# Altium schematic symbol library Schlib SOM AM625.SchLib: 122 symbols (part 4 of 4)
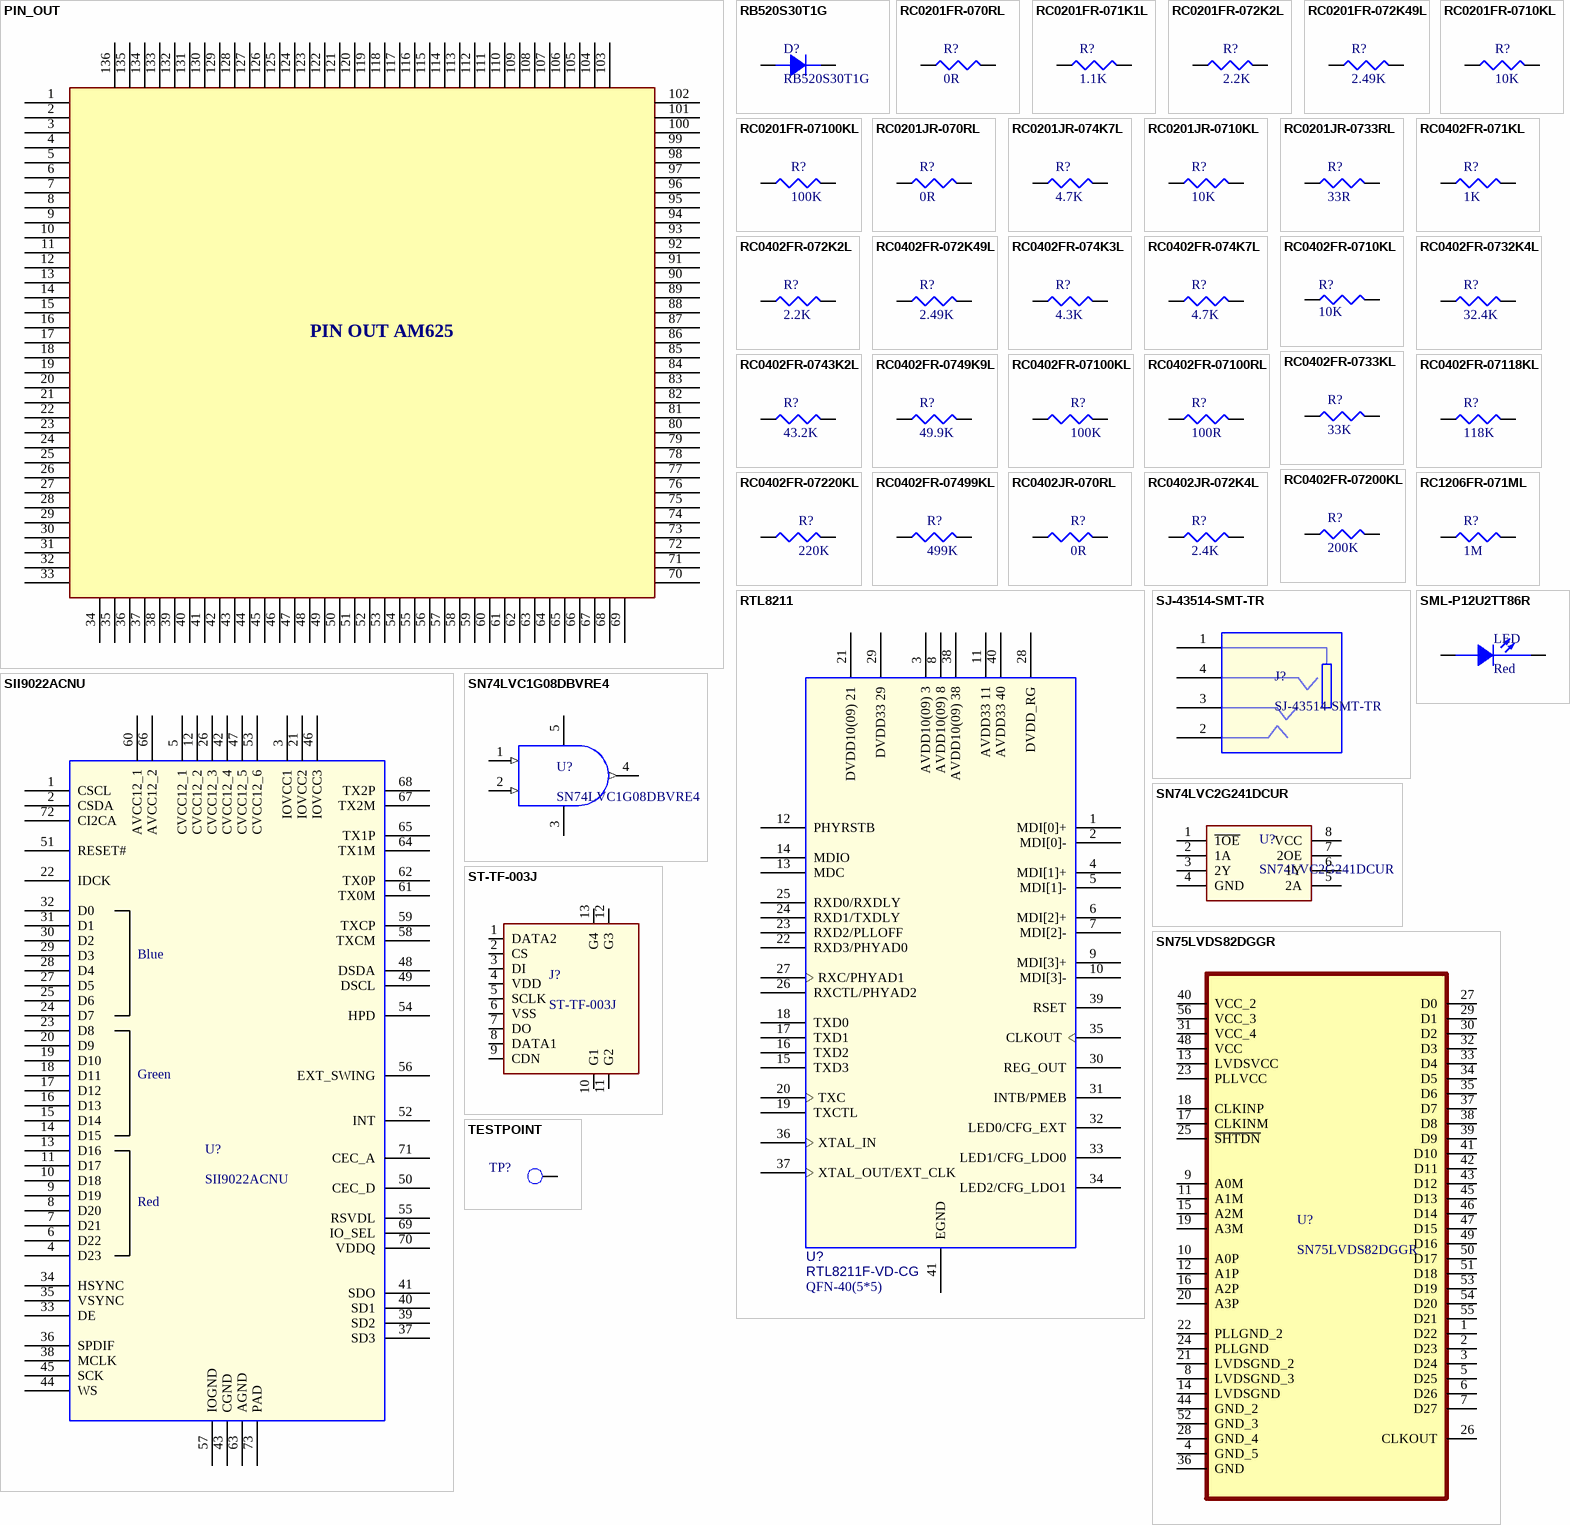
[diagram p6: symbols PIN_OUT to TESTPOINT]

## RC0402FR-07220KL
designator R?, comment 220K
SMD Chip Resistor, 220 kOhm, ± 1%, 63 mW, 0402 [1005 Metric], Thick Film, General Purpose; Manufacturer: Yageo; Manufacturer Part Number: RC0402FR-07220KL; Resistance: 220kR; Power Rating: 62.5mW; Voltage Rating: 50V; Temperature Coefficient: 100ppm/°C; Max Power Dissipation: 63mW; Supplier 1: Future Electronics; RoHS: Yes; Category: Chip SMD Resistors; Stock 1: 20000; Pricing 1: 10000=0.0008, 50000=0.0008, 250000=0.0007, 500000=0.0007, 1500000=0.0007 (USD); Case/Package: 0402; Case Code (Imperial): 0402; Case Code (Metric): 1005; Weight: 2.3E-05oz; Size Code: 0402; Min Operating Temperature: -55°C; Max Operating Temperature: 155°C; Tolerance: 1%; Package Quantity: 1; Packaging: Tape and Reel; Termination: SMD/SMT; Resistor Type: Thick Film; Number of Terminations: 2; Features: Moisture Resistant; Series: RC; Resistance Tolerance: 1%; Technology: THICK FILM; Construction: Rectangular; Voltage Rating (AC): 50V; Length: 1mm; Width: 0.02inch; Height: 0.016inch; Depth: 0.5mm; RoHS Compliant: Yes; Reach SVHC Compliant: No; Military Standard: Not; Lead Free: 5697LeadFree; ComponentLink1URL: https://datasheet.ciiva.com/11808/0900766b80c66297-11808792.pdf?src-supplier=Rs; ComponentLink1Description: https://datasheet.ciiva.com/11808/0900766b80c66297-11808792.pdf?src-supplier=Rs; ComponentLink2URL: https://datasheet.ciiva.com/5924/1018594-5924944.pdf?src-supplier=Farnell; ComponentLink2Description: https://datasheet.ciiva.com/5924/1018594-5924944.pdf?src-supplier=Farnell; ComponentLink3URL: https://datasheet.ciiva.com/2453/pyu-r-int-thick-7-2453533.pdf?src-supplier=Digi-Key; ComponentLink3Description: https://datasheet.ciiva.com/2453/pyu-r-int-thick-7-2453533.pdf?src-supplier=Digi-Key; ComponentLink4URL: https://datasheet.ciiva.com/2453/pyu-r-int-thick-7-2453534.pdf?src-supplier=Digi-Key; ComponentLink4Description: https://datasheet.ciiva.com/2453/pyu-r-int-thick-7-2453534.pdf?src-supplier=Digi-Key; ComponentLink5URL: https://datasheet.ciiva.com/2453/pyu-r-int-thick-7-2453532.pdf?src-supplier=Digi-Key; ComponentLink5Description: https://datasheet.ciiva.com/2453/pyu-r-int-thick-7-2453532.pdf?src-supplier=Digi-Key; ComponentLink6URL: https://datasheet.ciiva.com/12577/pyu-rc0402-51-rohs-l-6-r-12577270.pdf?src-supplier=Mouser; ComponentLink6Description: https://datasheet.ciiva.com/12577/pyu-rc0402-51-rohs-l-6-r-12577270.pdf?src-supplier=Mouser; Supplier Part Number 1: 3187143
footprint R0402
pins: 1, 2

## RC0402FR-07499KL
designator R?, comment 499K
SMD Chip Resistor, 499 kOhm, ± 1%, 63 mW, 0402 [1005 Metric], Thick Film, General Purpose; Manufacturer: Yageo; Manufacturer Part Number: RC0402FR-07499KL; Resistance: 499kR; Power Rating: 62.5mW; Voltage Rating: 50V; Max Power Dissipation: 63mW; Temperature Coefficient: 100ppm/°C; Supplier 1: Future Electronics; RoHS: Yes; Category: Chip SMD Resistors; Stock 1: 910000; Pricing 1: 10000=0.0008, 50000=0.0008, 250000=0.0007, 500000=0.0007, 1500000=0.0007 (USD); Case/Package: 0402; Case Code (Metric): 1005; Case Code (Imperial): 0402; Min Operating Temperature: -55°C; Max Operating Temperature: 155°C; Package Quantity: 1; Tolerance: 1%; Packaging: Tape and Reel; Number of Terminations: 2; Termination: SMD/SMT; Working Voltage: 50V; Features: Moisture Resistant; Series: RC; Construction: Rectangular; Technology: THICK FILM; Voltage Rating (DC): 50V; Length: 0.039inch; Width: 0.02inch; Height: 0.016inch; Depth: 0.5mm; Military Standard: Not; RoHS Compliant: Yes; Lead Free: 5697LeadFree; ComponentLink1URL: https://datasheet.ciiva.com/2491/pyu-r-int-thick-7-2491265.pdf?src-supplier=Digi-Key; ComponentLink1Description: https://datasheet.ciiva.com/2491/pyu-r-int-thick-7-2491265.pdf?src-supplier=Digi-Key; ComponentLink2URL: https://datasheet.ciiva.com/2491/pyu-r-int-thick-7-2491266.pdf?src-supplier=Digi-Key; ComponentLink2Description: https://datasheet.ciiva.com/2491/pyu-r-int-thick-7-2491266.pdf?src-supplier=Digi-Key; ComponentLink3URL: https://datasheet.ciiva.com/2491/pyu-r-int-thick-7-2491264.pdf?src-supplier=Digi-Key; ComponentLink3Description: https://datasheet.ciiva.com/2491/pyu-r-int-thick-7-2491264.pdf?src-supplier=Digi-Key; ComponentLink4URL: https://datasheet.ciiva.com/5558/pyu-rc0402-51-rohs-l-6-r-5558345.pdf?src-supplier=Mouser; ComponentLink4Description: https://datasheet.ciiva.com/5558/pyu-rc0402-51-rohs-l-6-r-5558345.pdf?src-supplier=Mouser; ComponentLink5URL: https://datasheet.ciiva.com/15189/getdatasheetpartid-323686-15189469.pdf?src-supplier=Verical; ComponentLink5Description: https://datasheet.ciiva.com/15189/getdatasheetpartid-323686-15189469.pdf?src-supplier=Verical; Supplier Part Number 1: 3509312
footprint R0402
pins: 1, 2

## RC0402JR-070RL
designator R?, comment 0R
Zero Ohm Resistor, Jumper, 0402 [1005 Metric], Thick Film, 63 mW, 1 A, Surface Mount; Manufacturer: Yageo; Manufacturer Part Number: RC0402JR-070RL; Resistance: 0mR; Power Rating: 62.5mW; Tolerance: 5%; Voltage Rating: 50V; Max Power Dissipation: 63mW; Temperature Coefficient: 200ppm/°C; Supplier 1: Future Electronics; RoHS: Yes; Category: Chip SMD Resistors; Stock 1: 51030000; Pricing 1: 10000=0.0009, 50000=0.0008, 250000=0.0008, 500000=0.0007, 1500000=0.0007 (USD); Case/Package: 0402; Contact Plating: Tin,Matte; Case Code (Metric): 1005; Case Code (Imperial): 0402; Size Code: 0402; Min Operating Temperature: -55°C; Max Operating Temperature: 155°C; Packaging: Tape and Reel; Resistor Type: Thick Film; Number of Terminations: 2; Termination: SMD/SMT; Features: Moisture Resistant; Series: RC; Package Quantity: 1; Technology: THICK FILM; Resistance Tolerance: 5%; Construction: Rectangular; Length: 1mm; Width: 0.02inch; Height: 0.016inch; Depth: 0.5mm; Lead Free: 5697LeadFree; Reach SVHC Compliant: Unknown; RoHS Compliant: Yes; Military Standard: Not; Supplier Part Number 1: 3375797
footprint R0402
pins: 1, 2

## RC0402JR-072K4L
designator R?, comment 2.4K
Res Thick Film 0402 2.4K Ohm 5% 1/16W ±100ppm/°C Molded SMD Paper T/R; Manufacturer: Yageo; Manufacturer Part Number: RC0402JR-072K4L; Supplier 1: Future Electronics; RoHS: Yes; Category: Chip SMD Resistors; Stock 1: 60000; Pricing 1: 10000=0.0014, 100000=0.0013, 300000=0.0013, 750000=0.0012, 2000000=0.0011 (USD); ComponentLink1URL: https://datasheet.ciiva.com/12561/pyu-rc0402-51-rohs-l-6-r-8721-12561339.pdf?src-supplier=Mouser; ComponentLink1Description: https://datasheet.ciiva.com/12561/pyu-rc0402-51-rohs-l-6-r-8721-12561339.pdf?src-supplier=Mouser; ComponentLink2URL: https://datasheet.ciiva.com/15189/getdatasheetpartid-323672-15189559.pdf?src-supplier=Verical; ComponentLink2Description: https://datasheet.ciiva.com/15189/getdatasheetpartid-323672-15189559.pdf?src-supplier=Verical; ComponentLink3URL: https://datasheet.ciiva.com/16743/pyu-rc0402-51-rohs-l-6-r-16743886.pdf?src-supplier=Future+Electronics; ComponentLink3Description: https://datasheet.ciiva.com/16743/pyu-rc0402-51-rohs-l-6-r-16743886.pdf?src-supplier=Future+Electronics; ComponentLink4URL: https://datasheet.ciiva.com/2518/pyu-r-int-thick-7-2518913.pdf?src-supplier=Digikey; ComponentLink4Description: https://datasheet.ciiva.com/2518/pyu-r-int-thick-7-2518913.pdf?src-supplier=Digikey; ComponentLink5URL: https://datasheet.ciiva.com/2518/pyu-r-int-thick-7-2518914.pdf?src-supplier=Digikey; ComponentLink5Description: https://datasheet.ciiva.com/2518/pyu-r-int-thick-7-2518914.pdf?src-supplier=Digikey; ComponentLink6URL: https://datasheet.ciiva.com/2518/pyu-r-int-thick-7-2518915.pdf?src-supplier=Digikey; ComponentLink6Description: https://datasheet.ciiva.com/2518/pyu-r-int-thick-7-2518915.pdf?src-supplier=Digikey; Supplier Part Number 1: 2527117
footprint R0402
pins: 1, 2

## RC1206FR-071ML
designator R?, comment 1M
SMD Chip Resistor, 1 MOhm, ± 1%, 250 mW, 1206 [3216 Metric], Thick Film, General Purpose; Manufacturer: Yageo; Manufacturer Part Number: RC1206FR-071ML; Resistance: 1MR; Temperature Coefficient: 100ppm/°C; Power Rating: 250mW; Voltage Rating: 200V; Supplier 1: Future Electronics; RoHS: Yes; Category: Chip SMD Resistors; Stock 1: 9835000; Pricing 1: 5000=0.0036, 20000=0.0034, 75000=0.0033, 200000=0.0031, 500000=0.0029 (USD); Case/Package: 1206; Case Code (Imperial): 1206; Case Code (Metric): 3216; Size Code: 1206; Min Operating Temperature: -55°C; Max Operating Temperature: 155°C; Tolerance: 1%; Packaging: Tape and Reel; Resistor Type: Thick Film; Package Quantity: 5000; Termination: SMD/SMT; Features: Moisture Resistant; Series: RC; Max Power Dissipation: 250mW; Number of Terminations: 2; Technology: THICK FILM; Resistance Tolerance: 1%; Voltage Rating (AC): 200V; Length: 3.1mm; Width: 1.6mm; Height: 0.55mm; Depth: 1.6mm; Reach SVHC Compliant: Unknown; Lead Free: 5697LeadFree; RoHS Compliant: Yes; ComponentLink1URL: https://datasheet.ciiva.com/11819/0900766b80c6630a-11819912.pdf?src-supplier=Rs; ComponentLink1Description: https://datasheet.ciiva.com/11819/0900766b80c6630a-11819912.pdf?src-supplier=Rs; ComponentLink2URL: https://datasheet.ciiva.com/46445/444357-46445709.pdf?src-supplier=Element14; ComponentLink2Description: https://datasheet.ciiva.com/46445/444357-46445709.pdf?src-supplier=Element14; ComponentLink3URL: https://datasheet.ciiva.com/7857/444357-7857289.pdf?src-supplier=Element14; ComponentLink3Description: https://datasheet.ciiva.com/7857/444357-7857289.pdf?src-supplier=Element14; ComponentLink4URL: https://datasheet.ciiva.com/7857/444357-7857288.pdf?src-supplier=Element14; ComponentLink4Description: https://datasheet.ciiva.com/7857/444357-7857288.pdf?src-supplier=Element14; ComponentLink5URL: https://datasheet.ciiva.com/17033/pyu-rc1206-51-rohs-l-4-17033611.pdf?src-supplier=Future+Electronics; ComponentLink5Description: https://datasheet.ciiva.com/17033/pyu-rc1206-51-rohs-l-4-17033611.pdf?src-supplier=Future+Electronics; Supplier Part Number 1: 3640612
footprint R1206B/3216MM (Chip Resistor, 2-Leads, Body 3.2x1.6mm, IPC Medium Density)
pins: 1, 2

## RTL8211
designator U?  value RTL8211F-VD-CG  Package Size: QFN-40(5*5)  (hidden comment: RTL8211)
IC, Interface, Ethernet, RTL8211F-VD-CG, QFN-40(5*5); Part Reference: U6; Manufacturer: Realtek; Company Part Status: BeagleV-Ahead; PCB Footprint: qfn40_0D4_5x5mm; PN: 310991199; Manufacturer PN: RTL8211F-VD-CG; CLASS: IC
footprint qfn40_0D4_5x5mm
pins: 1 MDI[0]+, 2 MDI[0]-, 3 AVDD10(09) 3 (power), 4 MDI[1]+, 5 MDI[1]-, 6 MDI[2]+, 7 MDI[2]-, 8 AVDD10(09) 8 (power), 9 MDI[3]+, 10 MDI[3]-, 11 AVDD33 11 (power), 12 PHYRSTB, 13 MDC, 14 MDIO, 15 TXD3, 16 TXD2, 17 TXD1, 18 TXD0, 19 TXCTL, 20 TXC, 21 DVDD10(09) 21 (power), 22 RXD3/PHYAD0, 23 RXD2/PLLOFF, 24 RXD1/TXDLY, 25 RXD0/RXDLY, 26 RXCTL/PHYAD2, 27 RXC/PHYAD1, 28 DVDD_RG (power), 29 DVDD33 29 (power), 30 REG_OUT (power), 31 INTB/PMEB, 32 LED0/CFG_EXT, 33 LED1/CFG_LDO0, 34 LED2/CFG_LDO1, 35 CLKOUT, 36 XTAL_IN, 37 XTAL_OUT/EXT_CLK, 38 AVDD10(09) 38 (power), 39 RSET, 40 AVDD33 40 (power), 41 EGND

## SII9022ACNU
designator U?
24-Bit RGB Input HDMI 1.4a Transmitter, 1080p@60Hz, no HDCP, 72-pin QFN; Manufacturer: Lattice Semiconductor; Supplier 1: Arrow Electronics; Manufacturer Part Number: SII9022ACNU; RoHS: No; Stock 1: 672; Pricing 1: 168=4.497, 504=4.493, 1008=4.489, 2520=4.485, 5040=4.481, 105000=4.477 (USD); Supplier Part Number 1: SII9022ACNU
footprint QFN50P1000X1000X90-73N
pins: 1 CSCL, 2 CSDA, 3 IOVCC1, 4 D23, 5 CVCC12_1, 6 D22, 7 D21, 8 D20, 9 D19, 10 D18, 11 D17, 12 CVCC12_2, 13 D16, 14 D15, 15 D14, 16 D13, 17 D12, 18 D11, 19 D10, 20 D9, 21 IOVCC2, 22 IDCK, 23 D8, 24 D7, 25 D6, 26 CVCC12_3, 27 D5, 28 D4, 29 D3, 30 D2, 31 D1, 32 D0, 33 DE, 34 HSYNC, 35 VSYNC, 36 SPDIF, 37 SD3, 38 MCLK, 39 SD2, 40 SD1, 41 SDO, 42 CVCC12_4, 43 CGND, 44 WS, 45 SCK, 46 IOVCC3, 47 CVCC12_5, 48 DSDA, 49 DSCL, 50 CEC_D, 51 RESET#, 52 INT, 53 CVCC12_6, 54 HPD, 55 RSVDL, 56 EXT_SWING, 57 IOGND, 58 TXCM, 59 TXCP, 60 AVCC12_1, 61 TX0M, 62 TX0P, 63 AGND, 64 TX1M, 65 TX1P, 66 AVCC12_2, 67 TX2M, 68 TX2P, 69 IO_SEL, 70 VDDQ, 71 CEC_A, 72 CI2CA, 73 PAD
text: Blue; Green; Red

## SJ-43514-SMT-TR
designator J?
3.5 mm, 4 Conductors, Right Angle, Surface Mount (SMT), Audio Jack Connector; Manufacturer: CUI Devices; Supplier 1: Arrow Electronics; Manufacturer Part Number: SJ-43514-SMT-TR; RoHS: Yes; Category: Audio / Video Connectors; Stock 1: 15500; Pricing 1: 5000=0.498, 6000=0.493, 10000=0.4893 (USD); ComponentLink1URL: https://datasheet.octopart.com/SJ-43514-SMT-TR-CUI-Devices-datasheet-137916562.pdf?src-supplier=Future+Electronics; ComponentLink1Description: https://datasheet.octopart.com/SJ-43514-SMT-TR-CUI-Devices-datasheet-137916562.pdf?src-supplier=Future+Electronics; ComponentLink2URL: https://www.cuidevices.com/product/resource/digikeypdf/sj-4351x-smt.pdf?src-supplier=Digikey; ComponentLink2Description: https://www.cuidevices.com/product/resource/digikeypdf/sj-4351x-smt.pdf?src-supplier=Digikey; Supplier Part Number 1: SJ-43514-SMT-TR
footprint CON_AV4_SJ-43514-SMT_S_R_S_5-1
pins: 1, 2, 3, 4

## SML-P12U2TT86R
designator LED, comment Red
LED Uni-Color Red 2-Pin Chip 0402(1006Metric) T/R; Manufacturer: Rohm; Manufacturer Part Number: SML-P12U2TT86R; Supplier 1: Digi-Key; RoHS: Yes; Category: LEDs; Stock 1: 17913; Pricing 1: 1=0.36, 10=0.236, 100=0.1577, 500=0.10908, 1000=0.0909, 2000=0.08181 (USD); ComponentLink1URL: http://www.mouser.com/ds/2/348/sml-p1-471200.pdf?src-supplier=Mouser; ComponentLink1Description: http://www.mouser.com/ds/2/348/sml-p1-471200.pdf?src-supplier=Mouser; ComponentLink2URL: https://datasheet.octopart.com/SML-P12U2TT86R-Rohm-datasheet-138791994.pdf?src-supplier=Future+Electronics; ComponentLink2Description: https://datasheet.octopart.com/SML-P12U2TT86R-Rohm-datasheet-138791994.pdf?src-supplier=Future+Electronics; ComponentLink3URL: https://www.rohm.com/datasheet/SML-P12DT(R)?src-supplier=Digi-Key; ComponentLink3Description: https://www.rohm.com/datasheet/SML-P12DT(R)?src-supplier=Digi-Key; ComponentLink4URL: https://d1d2qsbl8m0m72.cloudfront.net/en/products/databook/datasheet/opto/led/chip_mono/sml-p1-e.pdf?src-supplier=Digi-Key; ComponentLink4Description: https://d1d2qsbl8m0m72.cloudfront.net/en/products/databook/datasheet/opto/led/chip_mono/sml-p1-e.pdf?src-supplier=Digi-Key; Supplier Part Number 1: 846-1192-1-ND
footprint led0402_R
pins: 1 A, 2 C

## SN74LVC1G08DBVRE4
designator U?
Single 2-input, 1.65-V to 5.5-V AND gate 5-SOT-23 -40 to 125; Manufacturer: Texas Instruments; Output Current: 32mA; Number of Inputs: 2; Min Supply Voltage: 1.65V; Max Supply Voltage: 5.5V; Number of Outputs: 1; Propagation Delay: 4ns; Quiescent Current: 10uA; High Level Output Current: -32mA; Turn-On Delay Time: 4.5ns; Supplier 1: Mouser; Manufacturer Part Number: SN74LVC1G08DBVRE4; RoHS: Yes; Category: Logic Gates; Stock 1: 9321; Pricing 1: 1=0.41, 10=0.317, 50=0.317, 100=0.197, 1000=0.128, 10000=0.102 (USD); Mount: Surface Mount; Case/Package: SOT-23-5; Number of Pins: 5; Weight: 0.000557oz; Min Operating Temperature: -40°C; Max Operating Temperature: 125°C; Packaging: Tape and Reel; Logic Function: AND GATE; Package Quantity: 3000; Number of Circuits: 1; Low Level Output Current: 32mA; Number of Gates: 1; Number of Input Lines: 2; Number of Output Lines: 1; Number of Elements: 1; Number of Bits: 1; Series: 74LVC; Technology: CMOS; Radiation Hardening: No; Reach SVHC Compliant: No; Lead Free: Lead Free; RoHS Compliant: Yes; ComponentLink1URL: https://datasheet.ciiva.com/18572/sn74lvc1g08-18572331.pdf?src-supplier=Digi-Key; ComponentLink1Description: https://datasheet.ciiva.com/18572/sn74lvc1g08-18572331.pdf?src-supplier=Digi-Key; ComponentLink2URL: https://datasheet.ciiva.com/18572/sn74lvc1g08-18572330.pdf?src-supplier=Digi-Key; ComponentLink2Description: https://datasheet.ciiva.com/18572/sn74lvc1g08-18572330.pdf?src-supplier=Digi-Key; ComponentLink3URL: https://datasheet.ciiva.com/18572/sn74lvc1g08-18572332.pdf?src-supplier=Digi-Key; ComponentLink3Description: https://datasheet.ciiva.com/18572/sn74lvc1g08-18572332.pdf?src-supplier=Digi-Key; ComponentLink4URL: https://datasheet.ciiva.com/4818/sces217y-471056-4818205.pdf?src-supplier=Mouser; ComponentLink4Description: https://datasheet.ciiva.com/4818/sces217y-471056-4818205.pdf?src-supplier=Mouser; ComponentLink5URL: https://datasheet.ciiva.com/14312/sn74lvc1g08-14312069.pdf?src-supplier=Avnet; ComponentLink5Description: https://datasheet.ciiva.com/14312/sn74lvc1g08-14312069.pdf?src-supplier=Avnet; ComponentLink6URL: https://datasheet.ciiva.com/15221/getdatasheetpartid-394152-15221709.pdf?src-supplier=Verical; ComponentLink6Description: https://datasheet.ciiva.com/15221/getdatasheetpartid-394152-15221709.pdf?src-supplier=Verical; Supplier Part Number 1: 595-SN74LVC1G08DBRE4
footprint SOT23-5
pins: 1 A (in), 2 B (in), 3 V- (power), 4 Y (out), 5 V+ (power)

## SN74LVC2G241DCUR
designator U?
Buffer, Non-Inverting 2 Element 1 Bit per Element Push-Pull Output US8; Manufacturer: Texas Instruments; Supplier 1: Mouser; Manufacturer Part Number: SN74LVC2G241DCUR; RoHS: Yes; Category: Buffers, Drivers and Transceivers; Stock 1: 7164; Pricing 1: 1=0.57, 10=0.473, 50=0.473, 100=0.355, 1000=0.23, 10000=0.182 (USD); ComponentLink1URL: https://datasheet.ciiva.com/15095/getdatasheetpartid-196853-15095029.pdf?src-supplier=Verical; ComponentLink1Description: https://datasheet.ciiva.com/15095/getdatasheetpartid-196853-15095029.pdf?src-supplier=Verical; ComponentLink2URL: https://datasheet.ciiva.com/1833/sn74lvc2g241-1833955.pdf?src-supplier=Digi-Key; ComponentLink2Description: https://datasheet.ciiva.com/1833/sn74lvc2g241-1833955.pdf?src-supplier=Digi-Key; ComponentLink3URL: https://datasheet.ciiva.com/1833/sn74lvc2g241-1833956.pdf?src-supplier=Digi-Key; ComponentLink3Description: https://datasheet.ciiva.com/1833/sn74lvc2g241-1833956.pdf?src-supplier=Digi-Key; ComponentLink4URL: https://datasheet.ciiva.com/1833/sn74lvc2g241-1833957.pdf?src-supplier=Digi-Key; ComponentLink4Description: https://datasheet.ciiva.com/1833/sn74lvc2g241-1833957.pdf?src-supplier=Digi-Key; ComponentLink5URL: https://datasheet.ciiva.com/48702/001073977-da-01-en-ic-buff-dvr-tr-sn74lvc2g241dcur-us-8-tid-48702679.pdf?src-supplier=Conrad; ComponentLink5Description: https://datasheet.ciiva.com/48702/001073977-da-01-en-ic-buff-dvr-tr-sn74lvc2g241dcur-us-8-tid-48702679.pdf?src-supplier=Conrad; Supplier Part Number 1: 595-SN74LVC2G241DCUR
footprint DCU8-M
pins: 1 ~{1OE}, 2 1A, 3 2Y, 4 GND (power), 5 2A, 6 1Y, 7 2OE, 8 VCC (power)

## SN75LVDS82DGGR
designator U?
0/5 Receiver  LVDS 56-TSSOP; Manufacturer: Texas Instruments; Number of Elements: 4; Operating Supply Voltage: 3.3V; Data Rate: 238Mbps; Number of Drivers: 28; Power Dissipation: 1.377W; Supplier 1: Mouser; Manufacturer Part Number: SN75LVDS82DGGR; RoHS: Yes; Category: Interface ICs; Stock 1: 10721; Pricing 1: 1=5.58, 10=4.78, 50=4.78, 100=4.11, 1000=2.93, 10000=2.82 (USD); Case/Package: TSSOP; Number of Pins: 56; Weight: 0.008229oz; Min Operating Temperature: 0°C; Max Operating Temperature: 70°C; Packaging: Tape and Reel; Number of Receivers: 4; Package Quantity: 1; Series: FlatLink™; Radiation Hardening: No; Lead Free: Lead Free; RoHS Compliant: Yes; ComponentLink1URL: https://datasheet.ciiva.com/3153/sn75lvds82-3153173.pdf?src-supplier=Avnet; ComponentLink1Description: https://datasheet.ciiva.com/3153/sn75lvds82-3153173.pdf?src-supplier=Avnet; ComponentLink2URL: https://datasheet.ciiva.com/1706/sn75lvds82-1706762.pdf?src-supplier=Digi-Key; ComponentLink2Description: https://datasheet.ciiva.com/1706/sn75lvds82-1706762.pdf?src-supplier=Digi-Key; ComponentLink3URL: https://datasheet.ciiva.com/1706/sn75lvds82-1706763.pdf?src-supplier=Digi-Key; ComponentLink3Description: https://datasheet.ciiva.com/1706/sn75lvds82-1706763.pdf?src-supplier=Digi-Key; ComponentLink4URL: https://datasheet.ciiva.com/1706/sn75lvds82-1706764.pdf?src-supplier=Digi-Key; ComponentLink4Description: https://datasheet.ciiva.com/1706/sn75lvds82-1706764.pdf?src-supplier=Digi-Key; ComponentLink5URL: https://datasheet.ciiva.com/41461/001187617-da-01-en-ic-flatlink-sn75lvds82dggr-tssop-56-tid-41461068.pdf?src-supplier=Conrad; ComponentLink5Description: https://datasheet.ciiva.com/41461/001187617-da-01-en-ic-flatlink-sn75lvds82dggr-tssop-56-tid-41461068.pdf?src-supplier=Conrad; Supplier Part Number 1: 595-SN75LVDS82DGGR
footprint SOP50P810X120-56N
pins: 1 D22, 2 D23, 3 D24, 4 GND_5, 5 D25, 6 D26, 7 D27, 8 LVDSGND_3, 9 A0M, 10 A0P, 11 A1M, 12 A1P, 13 LVDSVCC, 14 LVDSGND, 15 A2M, 16 A2P, 17 CLKINM, 18 CLKINP, 19 A3M, 20 A3P, 21 LVDSGND_2, 22 PLLGND_2, 23 PLLVCC, 24 PLLGND, 25 ~{SHTDN}, 26 CLKOUT, 27 D0, 28 GND_4, 29 D1, 30 D2, 31 VCC_4, 32 D3, 33 D4, 34 D5, 35 D6, 36 GND, 37 D7, 38 D8, 39 D9, 40 VCC_2, 41 D10, 42 D11, 43 D12, 44 GND_2, 45 D13, 46 D14, 47 D15, 48 VCC, 49 D16, 50 D17, 51 D18, 52 GND_3, 53 D19, 54 D20, 55 D21, 56 VCC_3

## ST-TF-003J
designator J?
Conn Micro SD Card HDR 8 POS 1.1mm Solder RA SMD Embossed T/R 0.5A; Manufacturer: Suntech; Current Rating: 500mA; Voltage Rating: 125V; Number of Contacts: 8; Gender: Female; Manufacturer Part Number: ST-TF-003J; RoHS: Yes; Category: Memory Connectors; Mount: Standard,Surface Mount; Contact Material: Copper Alloy; Contact Plating: Gold; Housing Material: Polymer; Min Operating Temperature: -25°C; Max Operating Temperature: 85°C; Number of Rows: 1; Packaging: Tape and Reel; Termination: SMD/SMT; Orientation: Right Angle; Max Current Rating: 500mA; Package Quantity: 1500; Max Voltage Rating (AC): 125V; Number of Positions: 8; Length: 15.95mm; Width: 13.85mm; Height: 1.68mm; Pitch: 1.1mm; Depth: 15.95mm; Radiation Hardening: No; RoHS Compliant: Yes; Reach SVHC Compliant: No; Lead Free: Lead Free; Supplier Part Number 1: 9010731
footprint SUNTECH_ST-TF-003A
pins: 1 DATA2, 2 CS, 3 DI, 4 VDD, 5 SCLK, 6 VSS, 7 DO, 8 DATA1, 9 CDN, 10 G1, 11 G2, 12 G3, 13 G4

## TESTPOINT
designator TP?, comment THRU HOLE  (value not drawn)
TESTPOINT 1.0MM DRILL PTH; Mfr_name: LOCAL; Mistral Part No: 130009030938; PCB Footprint: TP_40X65; Project: HSE; Library Ref: TESTPOINT; Datasheet: NA; Chkd/date: MAZHAR/271211; Crtd /date: SHREESHAIL/041005; Height: NA; Distributor_part_number: NA; Distributor_name: NA; Package: THRU-HOLE; Part_type: TESTPOINT; Mfr_part_number: TP_40X65
footprint TP_40X65
pins: 1 TP

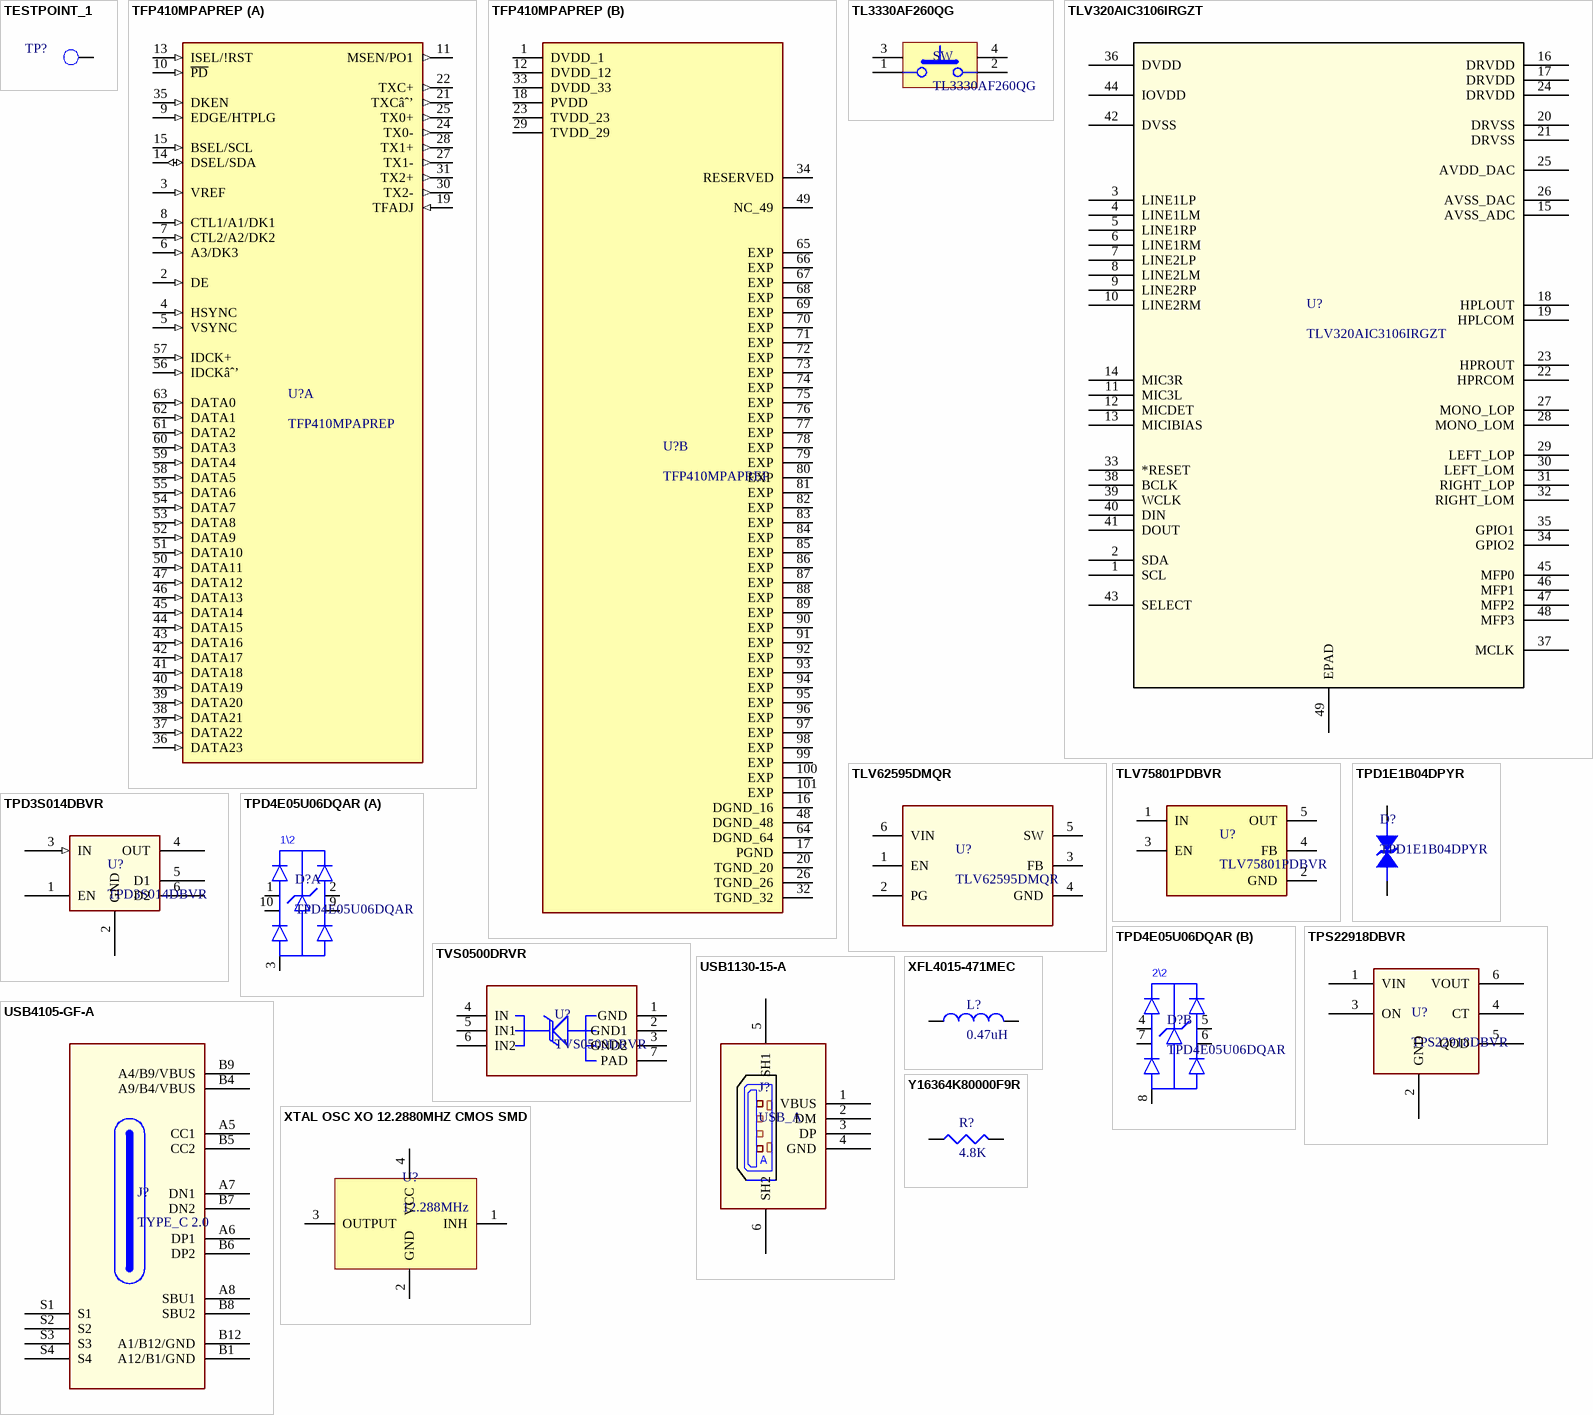
[diagram p3: symbols TESTPOINT_1 to Y16364K80000F9R]

## TESTPOINT_1
designator TP?, comment TP20_SMD  (value not drawn)
TESTPOINT CIR 20 SMD; Mistral Part No: NA; Mfr_name: LOCAL; Project: BT MODULE_CSRBC04; PCB Footprint: TP20_SMD; RoHS: NA; Mfr_part_number: TP20_SMD; Part_type: TESTPOINT; Package: SMD; Distributor_name: NA; Distributor_part_number: NA; Height: NA; Crtd /date: MAZHAR/171006; Chkd/date: SHREESHAIL/171006; Tolerance: NA; Voltage: NA; Wattage: NA; Weight: NA; Temperature: NA; Datasheet: NA; MECHANICAL 3D STEP FILE: NA; Library Path: Y:\MIS_DATABASE\Library\ALTIUM_TOOL\SCHEMATICS_PARTS\MS_DISCRETE_Library.schlib; Footprint Path: Y:\MIS_DATABASE\Library\ALTIUM_TOOL\PCB_FOOTPRINTS\Altium_Footprint_Lib.PcbLib; Library Ref: TESTPOINT; Footprint Ref: TP20_SMD; Customs_HS_Code: NA; Custom_Duty: NA
footprint TP20_SMD
pins: 1 TP

## TFP410MPAPREP
designator U?
Enhanced product Panelbus™ digital transmitter 64-HTQFP -55 to 125; Manufacturer: Texas Instruments; Number of Transmitters: 3; Min Supply Voltage: 3V; Max Supply Voltage: 3.6V; Max Supply Current: 250mA; Interface: I2C,Serial; Operating Supply Current: 200uA; Max Power Dissipation: 592mW; Bandwidth: 165MHz; Supplier 1: Mouser; Manufacturer Part Number: TFP410MPAPREP; RoHS: Yes; Category: Interface ICs; Stock 1: 796; Pricing 1: 1=15.36, 10=14.12, 25=13.54, 50=13.54, 100=11.93, 250=11.35, 500=10.61, 1000=9.73, 10000=9.73 (USD); Case/Package: HTQFP; Number of Pins: 64; Weight: 0.009108oz; Min Operating Temperature: -55°C; Max Operating Temperature: 125°C; Packaging: Tape and Reel; Package Quantity: 1; Series: PanelBus™; Supply Current: 250mA; Termination: SMD/SMT; Radiation Hardening: No; Lead Free: Contains Lead; RoHS Compliant: Yes; Reach SVHC Compliant: No; ComponentLink1URL: https://datasheet.ciiva.com/22696/1764569-22696643.pdf?src-supplier=Element14; ComponentLink1Description: https://datasheet.ciiva.com/22696/1764569-22696643.pdf?src-supplier=Element14; ComponentLink2URL: https://datasheet.ciiva.com/4781/sgls344a-114847-4781492.pdf?src-supplier=Mouser; ComponentLink2Description: https://datasheet.ciiva.com/4781/sgls344a-114847-4781492.pdf?src-supplier=Mouser; ComponentLink3URL: https://datasheet.ciiva.com/3037/tfp410-ep-3037272.pdf?src-supplier=Avnet; ComponentLink3Description: https://datasheet.ciiva.com/3037/tfp410-ep-3037272.pdf?src-supplier=Avnet; ComponentLink4URL: https://datasheet.ciiva.com/1709/tfp410-ep-1709186.pdf?src-supplier=Digi-Key; ComponentLink4Description: https://datasheet.ciiva.com/1709/tfp410-ep-1709186.pdf?src-supplier=Digi-Key; ComponentLink5URL: https://datasheet.ciiva.com/1709/tfp410-ep-1709187.pdf?src-supplier=Digi-Key; ComponentLink5Description: https://datasheet.ciiva.com/1709/tfp410-ep-1709187.pdf?src-supplier=Digi-Key; ComponentLink6URL: https://datasheet.ciiva.com/1709/tfp410-ep-1709188.pdf?src-supplier=Digi-Key; ComponentLink6Description: https://datasheet.ciiva.com/1709/tfp410-ep-1709188.pdf?src-supplier=Digi-Key; ComponentLink7URL: https://datasheet.ciiva.com/1503/1764569-1503925.pdf?src-supplier=Element14; ComponentLink7Description: https://datasheet.ciiva.com/1503/1764569-1503925.pdf?src-supplier=Element14; ComponentLink8URL: https://datasheet.ciiva.com/1504/1764569-1504245.pdf?src-supplier=Element14; ComponentLink8Description: https://datasheet.ciiva.com/1504/1764569-1504245.pdf?src-supplier=Element14; Supplier Part Number 1: 595-TFP410MPAPREP
footprint IC_TFP410MPAPREP
part A pins: 2 DE (in), 3 VREF (in), 4 HSYNC (in), 5 VSYNC (in), 6 A3/DK3 (in), 7 CTL2/A2/DK2 (in), 8 CTL1/A1/DK1 (in), 9 EDGE/HTPLG (in), 10 ~{PD} (in), 11 MSEN/PO1 (out), 13 ISEL/!RST (in), 14 DSEL/SDA (io), 15 BSEL/SCL (in), 19 TFADJ (in), 21 TXCâˆ’ (out), 22 TXC+ (out), 24 TX0- (out), 25 TX0+ (out), 27 TX1- (out), 28 TX1+ (out), 30 TX2- (out), 31 TX2+ (out), 35 DKEN (in), 36 DATA23 (in), 37 DATA22 (in), 38 DATA21 (in), 39 DATA20 (in), 40 DATA19 (in), 41 DATA18 (in), 42 DATA17 (in), 43 DATA16 (in), 44 DATA15 (in), 45 DATA14 (in), 46 DATA13 (in), 47 DATA12 (in), 50 DATA11 (in), 51 DATA10 (in), 52 DATA9 (in), 53 DATA8 (in), 54 DATA7 (in), 55 DATA6 (in), 56 IDCKâˆ’ (in), 57 IDCK+ (in), 58 DATA5 (in), 59 DATA4 (in), 60 DATA3 (in), 61 DATA2 (in), 62 DATA1 (in), 63 DATA0 (in)
part B pins: 1 DVDD_1 (power), 12 DVDD_12 (power), 16 DGND_16 (power), 17 PGND (power), 18 PVDD (power), 20 TGND_20 (power), 23 TVDD_23 (power), 26 TGND_26 (power), 29 TVDD_29 (power), 32 TGND_32 (power), 33 DVDD_33 (power), 34 RESERVED, 48 DGND_48 (power), 49 NC_49, 64 DGND_64 (power), 65 EXP (power), 66 EXP (power), 67 EXP (power), 68 EXP (power), 69 EXP (power), 70 EXP (power), 71 EXP (power), 72 EXP (power), 73 EXP (power), 74 EXP (power), 75 EXP (power), 76 EXP (power), 77 EXP (power), 78 EXP (power), 79 EXP (power), 80 EXP (power), 81 EXP (power), 82 EXP (power), 83 EXP (power), 84 EXP (power), 85 EXP (power), 86 EXP (power), 87 EXP (power), 88 EXP (power), 89 EXP (power), 90 EXP (power), 91 EXP (power), 92 EXP (power), 93 EXP (power), 94 EXP (power), 95 EXP (power), 96 EXP (power), 97 EXP (power), 98 EXP (power), 99 EXP (power), 100 EXP (power), 101 EXP (power)

## TL3330AF260QG
designator SW
Switch Tactile N.O. SPST Rectangular Button Gull Wing 0.05A 12VDC 2.55N SMD; Manufacturer: E-Switch; Contact Current Rating: 50mA; Number of Positions: 2NUMBER; Supplier 1: Digikey; Manufacturer Part Number: TL3330AF260QG; RoHS: Yes; Category: Tactile Switches; Stock 1: 112482; Pricing 1: 1=0.51, 10=0.488, 25=0.47, 100=0.4068, 250=0.3706, 500=0.3435, 1000=0.30734 (USD); Height: 3.75mm; ComponentLink1URL: https://datasheet.ciiva.com/2900/p010951-2900788.pdf?src-supplier=Digikey; ComponentLink1Description: https://datasheet.ciiva.com/2900/p010951-2900788.pdf?src-supplier=Digikey; ComponentLink2URL: https://datasheet.ciiva.com/5284/tl3330-28043-5284129.pdf?src-supplier=Mouser; ComponentLink2Description: https://datasheet.ciiva.com/5284/tl3330-28043-5284129.pdf?src-supplier=Mouser; ComponentLink3URL: https://datasheet.ciiva.com/2900/tl3330-2900789.pdf?src-supplier=Digikey; ComponentLink3Description: https://datasheet.ciiva.com/2900/tl3330-2900789.pdf?src-supplier=Digikey; ComponentLink4URL: https://datasheet.ciiva.com/2900/tl3330-2900790.pdf?src-supplier=Digikey; ComponentLink4Description: https://datasheet.ciiva.com/2900/tl3330-2900790.pdf?src-supplier=Digikey; Supplier Part Number 1: EG4389CT-ND
footprint SW_TL3330_EWI
pins: 1, 2, 3 MECH1, 4 MECH2

## TLV320AIC3106IRGZT
designator U?
Very-Low-Power Stereo Audio CODEC With PowerTune Technology 32-VQFN -40 to 85; Manufacturer: Texas Instruments; Supplier 1: Mouser; Manufacturer Part Number: TLV320AIC3106IRGZT; RoHS: Yes; Category: Amplifiers - Audio; Stock 1: 4883; Pricing 1: 1=4.76, 10=4.28, 50=4.28, 100=3.5, 1000=2.51, 10000=2.39 (USD); ComponentLink1URL: https://datasheet.ciiva.com/1148/tlv320aic3204-1148166.pdf?src-supplier=Newark; ComponentLink1Description: https://datasheet.ciiva.com/1148/tlv320aic3204-1148166.pdf?src-supplier=Newark; ComponentLink2URL: https://datasheet.ciiva.com/1141/1764454-1141057.pdf?src-supplier=Element14; ComponentLink2Description: https://datasheet.ciiva.com/1141/1764454-1141057.pdf?src-supplier=Element14; ComponentLink3URL: https://datasheet.ciiva.com/26913/getdatasheetpartid-301856-26913275.pdf?src-supplier=Verical; ComponentLink3Description: https://datasheet.ciiva.com/26913/getdatasheetpartid-301856-26913275.pdf?src-supplier=Verical; ComponentLink4URL: https://datasheet.ciiva.com/28421/1887548-28421445.pdf?src-supplier=Element14; ComponentLink4Description: https://datasheet.ciiva.com/28421/1887548-28421445.pdf?src-supplier=Element14; ComponentLink5URL: https://datasheet.ciiva.com/1691/tlv320aic3204-1691483.pdf?src-supplier=Digi-Key; ComponentLink5Description: https://datasheet.ciiva.com/1691/tlv320aic3204-1691483.pdf?src-supplier=Digi-Key; ComponentLink6URL: https://datasheet.ciiva.com/1691/tlv320aic3204-1691484.pdf?src-supplier=Digi-Key; ComponentLink6Description: https://datasheet.ciiva.com/1691/tlv320aic3204-1691484.pdf?src-supplier=Digi-Key; ComponentLink7URL: https://datasheet.ciiva.com/1691/tlv320aic3204-1691485.pdf?src-supplier=Digi-Key; ComponentLink7Description: https://datasheet.ciiva.com/1691/tlv320aic3204-1691485.pdf?src-supplier=Digi-Key; Supplier Part Number 1: 595-V320AIC3204IRHBR
footprint VQFN48_19-68_285X285
pins: 1 SCL, 2 SDA, 3 LINE1LP, 4 LINE1LM, 5 LINE1RP, 6 LINE1RM, 7 LINE2LP, 8 LINE2LM, 9 LINE2RP, 10 LINE2RM, 11 MIC3L, 12 MICDET, 13 MICIBIAS, 14 MIC3R, 15 AVSS_ADC, 16 DRVDD, 17 DRVDD, 18 HPLOUT, 19 HPLCOM, 20 DRVSS, 21 DRVSS, 22 HPRCOM, 23 HPROUT, 24 DRVDD, 25 AVDD_DAC, 26 AVSS_DAC, 27 MONO_LOP, 28 MONO_LOM, 29 LEFT_LOP, 30 LEFT_LOM, 31 RIGHT_LOP, 32 RIGHT_LOM, 33 *RESET, 34 GPIO2, 35 GPIO1, 36 DVDD, 37 MCLK, 38 BCLK, 39 WCLK, 40 DIN, 41 DOUT, 42 DVSS, 43 SELECT, 44 IOVDD, 45 MFP0, 46 MFP1, 47 MFP2, 48 MFP3, 49 EPAD

## TLV62595DMQR
designator U?
2.5-V to 5.5-V input, 4-A step-down converter with 1% output accuracy in 1.5-mm x 1.5-mm QFN package 6-VSON-HR -40 to...; Manufacturer: Texas Instruments; Supplier 1: Digi-Key; Manufacturer Part Number: TLV62595DMQR; RoHS: Yes; Category: Voltage Regulators - Switching; Stock 1: 8309; Pricing 1: 1=0.87, 10=0.767, 25=0.72, 100=0.5877, 250=0.54592, 500=0.4646, 1000=0.37168 (USD); Supplier Part Number 1: 296-TLV62595DMQRCT-ND
footprint VSON6_0D5_1D5X1D5X1MM
pins: 1 EN, 2 PG (oc), 3 FB, 4 GND (power), 5 SW, 6 VIN (power)

## TLV75801PDBVR
designator U?
Adjustable 500-mA low-dropout (LDO) regulator 5-SOT-23 -40 to 125; Manufacturer: Texas Instruments; Output Configuration: Positive; Max Input Voltage: 6V; Min Output Voltage: 550mV; Max Output Voltage: 5.5V; Output Current: 500mA; Power Supply Rejection Ratio (PSRR): 30dB; Number of Regulators: 1; Quiescent Current: 35uA; Accuracy: 0.7%; Dropout Voltage: 720mV; Min Supply Voltage: 1.5V; Nominal Supply Current: 25uA; Number of Channels: 1NUMBER; Supplier 1: Mouser; Manufacturer Part Number: TLV75801PDBVR; RoHS: Yes; Category: Voltage Regulators - Linear; Stock 1: 49798; Pricing 1: 1=0.35, 10=0.261, 50=0.261, 100=0.146, 1000=0.11, 10000=0.088 (USD); Mount: Surface Mount; Case/Package: SOT-23-5; Number of Pins: 5NUMBER; Min Operating Temperature: -40°C; Max Operating Temperature: 125°C; Output Type: Adjustable; Series: -; Max Supply Voltage: 6V; Number of Outputs: 1NUMBER; Length: 2.9mm; Width: 1.6mm; Height: 1.45mm; Thickness: 1.2mm; ComponentLink1URL: http://www.ti.com/general/docs/suppproductinfo.tsp?distId=10&amp;gotoUrl=http%3A%2F%2Fwww.ti.com%2Flit%2Fgpn%2Ftlv758p&src-supplier=Digi-Key; ComponentLink1Description: http://www.ti.com/general/docs/suppproductinfo.tsp?distId=10&amp;gotoUrl=http%3A%2F%2Fwww.ti.com%2Flit%2Fgpn%2Ftlv758p&src-supplier=Digi-Key; Supplier Part Number 1: 595-TLV75801PDBVR
footprint SOT23-5
pins: 1 IN, 2 GND (power), 3 EN, 4 FB, 5 OUT

## TPD1E1B04DPYR
designator D?
1-pF, ±3.6-V, ±30-kV ESD protection diode with 6-A 8/20-uS surge & Low Clamping in 0402 package; Manufacturer: Texas Instruments; Capacitance: 1pF; Interface: LVDS,USB,Ethernet; Number of Channels: 1; Direction: 211Direction; Breakdown Voltage: 6.4V; Clamping Voltage: 8.5V; Peak Pulse Current: 6.3A; Peak Pulse Power: 50W; Reverse Standoff Voltage: 3.6V; Supplier 1: Mouser; Manufacturer Part Number: TPD1E1B04DPYR; RoHS: Yes; Category: Integrated Circuits (ICs); Stock 1: 57724; Pricing 1: 1=0.35, 10=0.28, 50=0.28, 100=0.184, 500=0.144, 1000=0.102, 2500=0.098, 10000=0.085, 20000=0.084, 50000=0.079 (USD); Number of Pins: 2NUMBER; Min Operating Temperature: -40°C; Max Operating Temperature: 125°C; Length: 600um; Width: 1mm; Height: 450um; Thickness: 370um; Lead Free: Lead Free; RoHS Compliant: Yes; ComponentLink1URL: http://www.ti.com/lit/ds/symlink/tpd1e1b04.pdf?src-supplier=Digi-Key; ComponentLink1Description: http://www.ti.com/lit/ds/symlink/tpd1e1b04.pdf?src-supplier=Digi-Key; ComponentLink2URL: http://www.ti.com/general/docs/suppproductinfo.tsp?distId=10&amp;gotoUrl=http%3A%2F%2Fwww.ti.com%2Flit%2Fgpn%2Ftpd1e1b04&src-supplier=Digi-Key; ComponentLink2Description: http://www.ti.com/general/docs/suppproductinfo.tsp?distId=10&amp;gotoUrl=http%3A%2F%2Fwww.ti.com%2Flit%2Fgpn%2Ftpd1e1b04&src-supplier=Digi-Key; Supplier Part Number 1: 595-TPD1E1B04DPYR
footprint DIO_TPD1E05U06DPYR
pins: 1, 2

## TPD3S014DBVR
designator U?
Current-limit switch and D+/D– ESD protection for USB Host ports 6-SOT-23 -40 to 85; Manufacturer: Texas Instruments; Supplier 1: Mouser; Manufacturer Part Number: TPD3S014DBVR; RoHS: Yes; Category: Integrated Circuits (ICs); Stock 1: 21420; Pricing 1: 1=1.13, 10=0.924, 50=0.924, 100=0.719, 1000=0.497, 10000=0.424 (USD); ComponentLink1URL: http://www.ti.com/lit/gpn/tpd3s014?src-supplier=Mouser; ComponentLink1Description: http://www.ti.com/lit/gpn/tpd3s014?src-supplier=Mouser; ComponentLink2URL: http://www.ti.com/general/docs/lit/getliterature.tsp?genericPartNumber=TPD3S014&&fileType=pdf&src-supplier=Element14; ComponentLink2Description: http://www.ti.com/general/docs/lit/getliterature.tsp?genericPartNumber=TPD3S014&&fileType=pdf&src-supplier=Element14; ComponentLink3URL: http://www.ti.com/lit/ds/symlink/tpd3s014.pdf?src-supplier=Digi-Key; ComponentLink3Description: http://www.ti.com/lit/ds/symlink/tpd3s014.pdf?src-supplier=Digi-Key; ComponentLink4URL: http://www.ti.com/general/docs/lit/getliterature.tsp?genericPartNumber=TPD3S044&&fileType=pdf&src-supplier=Avnet; ComponentLink4Description: http://www.ti.com/general/docs/lit/getliterature.tsp?genericPartNumber=TPD3S044&&fileType=pdf&src-supplier=Avnet; ComponentLink5URL: http://www.ti.com/general/docs/lit/getliterature.tsp?genericPartNumber=TPD3S014&&fileType=pdf&src-supplier=Farnell; ComponentLink5Description: http://www.ti.com/general/docs/lit/getliterature.tsp?genericPartNumber=TPD3S014&&fileType=pdf&src-supplier=Farnell; Supplier Part Number 1: 595-TPD3S014DBVR
footprint SOT23-6
pins: 1 EN, 2 GND (power), 3 IN (in), 4 OUT, 5 D1, 6 D2

## TPD4E05U06DQAR
designator D?
Quad 0.5-pF, 5.5-V, ±12-kV ESD protection diode for USB, HDMI & High Speed Interfaces; Manufacturer: Texas Instruments; Direction: Unidirectional; Working Voltage: 5.5V; Min Breakdown Voltage: 6V; Clamping Voltage: 14V; Peak Pulse Power: 40W; Power Line Protection: Yes; Number of Channels: 4; Leakage Current: 10nA; Peak Pulse Current: 2.5A; Interface: LVDS,USB,Ethernet,HDMI,PCIe,SATA; Supplier 1: Mouser; Manufacturer Part Number: TPD4E05U06DQAR; RoHS: Yes; Category: Integrated Circuits (ICs); Stock 1: 35141; Pricing 1: 1=0.58, 10=0.487, 50=0.487, 100=0.339, 500=0.264, 1000=0.216, 3000=0.189, 9000=0.167, 10000=0.167, 24000=0.163, 45000=0.161 (USD); Mount: Surface Mount; Case/Package: SON; Number of Pins: 10; Min Operating Temperature: -40°C; Max Operating Temperature: 125°C; Packaging: Tape and Reel; Package Quantity: 3000; Polarity: Unidirectional; Reverse Standoff Voltage: 5.5V; Breakdown Voltage: 6V; Max Power Dissipation: 40W; Termination: SMD/SMT; Operating Supply Voltage: 5.5V; Series: -; Number of Unidirectional Channels: 4; Length: 2.6mm; Depth: 1.1mm; Radiation Hardening: No; Reach SVHC Compliant: No; Lead Free: Lead Free; RoHS Compliant: Yes; ComponentLink1URL: https://datasheet.ciiva.com/15063/tpd4e05u06-15063653.pdf?src-supplier=Digi-Key; ComponentLink1Description: https://datasheet.ciiva.com/15063/tpd4e05u06-15063653.pdf?src-supplier=Digi-Key; ComponentLink2URL: https://datasheet.ciiva.com/24119/slvsbo7f-316827-24119436.pdf?src-supplier=Mouser; ComponentLink2Description: https://datasheet.ciiva.com/24119/slvsbo7f-316827-24119436.pdf?src-supplier=Mouser; ComponentLink3URL: https://datasheet.ciiva.com/26918/getdatasheetpartid-716763-26918024.pdf?src-supplier=Verical; ComponentLink3Description: https://datasheet.ciiva.com/26918/getdatasheetpartid-716763-26918024.pdf?src-supplier=Verical; ComponentLink4URL: https://datasheet.ciiva.com/15063/tpd4e05u06-15063654.pdf?src-supplier=Digi-Key; ComponentLink4Description: https://datasheet.ciiva.com/15063/tpd4e05u06-15063654.pdf?src-supplier=Digi-Key; ComponentLink5URL: https://datasheet.ciiva.com/15063/tpd4e05u06-15063655.pdf?src-supplier=Digi-Key; ComponentLink5Description: https://datasheet.ciiva.com/15063/tpd4e05u06-15063655.pdf?src-supplier=Digi-Key; ComponentLink6URL: https://datasheet.ciiva.com/29883/tpd4e05u06-29883798.pdf?src-supplier=Avnet; ComponentLink6Description: https://datasheet.ciiva.com/29883/tpd4e05u06-29883798.pdf?src-supplier=Avnet; Supplier Part Number 1: 595-TPD4E05U06DQAR
footprint 10-USON
part A pins: 1 1A, 2 2A, 3 GND1, 9 2B, 10 1B
part B pins: 4 3A, 5 4A, 6 4B, 7 3B, 8 GND1
part A text: 1\2
part B text: 2\2

## TPS22918DBVR
designator U?
IC SINGLE CHANNEL LOAD SWITCH; Manufacturer: Texas Instruments; Max Supply Voltage: 5.5V; Min Supply Voltage: 1V; Output Current: 2A; Supplier 1: Mouser; Manufacturer Part Number: TPS22918DBVR; RoHS: Yes; Category: Power Management ICs; Stock 1: 70571; Pricing 1: 1=0.53, 10=0.454, 50=0.454, 100=0.34, 500=0.267, 1000=0.207, 3000=0.197, 10000=0.197 (USD); Number of Pins: 6NUMBER; Length: 2.9mm; Width: 1.6mm; Height: 1.45mm; Thickness: 1.2mm; ComponentLink1URL: http://www.ti.com/lit/gpn/tps22918?src-supplier=Mouser; ComponentLink1Description: http://www.ti.com/lit/gpn/tps22918?src-supplier=Mouser; ComponentLink2URL: http://www.ti.com/lit/ds/symlink/tps22918.pdf?src-supplier=Digi-Key; ComponentLink2Description: http://www.ti.com/lit/ds/symlink/tps22918.pdf?src-supplier=Digi-Key; ComponentLink3URL: http://www.ti.com/general/docs/suppproductinfo.tsp?distId=10&amp;gotoUrl=http%3A%2F%2Fwww.ti.com%2Flit%2Fgpn%2Ftps22918&src-supplier=Digi-Key; ComponentLink3Description: http://www.ti.com/general/docs/suppproductinfo.tsp?distId=10&amp;gotoUrl=http%3A%2F%2Fwww.ti.com%2Flit%2Fgpn%2Ftps22918&src-supplier=Digi-Key; Supplier Part Number 1: 595-TPS22918DBVR
footprint SOT23-6
pins: 1 VIN, 2 GND (power), 3 ON, 4 CT, 5 QOD, 6 VOUT

## TVS0500DRVR
designator U?
Diode TVS Single Uni-Dir 5V 400W 6-Pin WSON EP T/R; Manufacturer: Texas Instruments; Number of Channels: 1; Min Breakdown Voltage: 7.5V; Peak Pulse Current: 43A; Power Line Protection: No; Diode Type: ZENER; Supplier 1: Mouser; Manufacturer Part Number: TVS0500DRVR; RoHS: Yes; Category: TVS Diodes; Stock 1: 8389; Pricing 1: 1=0.62, 10=0.533, 50=0.533, 100=0.371, 500=0.29, 1000=0.235, 3000=0.195, 9000=0.19, 10000=0.19, 24000=0.18 (USD); Mount: Surface Mount; Min Operating Temperature: -40°C; Max Operating Temperature: 125°C; Packaging: Cut Tape; Number of Unidirectional Channels: 1; Reverse Standoff Voltage: 5V; Peak Pulse Power: 400W; Series: -; RoHS Compliant: Yes; ComponentLink1URL: http://www.ti.com/lit/ds/symlink/tvs0500.pdf?src-supplier=Digi-Key; ComponentLink1Description: http://www.ti.com/lit/ds/symlink/tvs0500.pdf?src-supplier=Digi-Key; ComponentLink2URL: http://www.ti.com/lit/ds/symlink/tvs0500.pdf?src-supplier=Farnell; ComponentLink2Description: http://www.ti.com/lit/ds/symlink/tvs0500.pdf?src-supplier=Farnell; Supplier Part Number 1: 595-TVS0500DRVR
footprint wson6_0d65_2x2x0_8mm
pins: 1 GND, 2 GND1, 3 GND2, 4 IN, 5 IN1, 6 IN2, 7 PAD

## USB1130-15-A
designator J?, comment USB_A
Usb Conn, 2.0 Type A, R/a Rcpt, 4Pos, Th Rohs Compliant: Yes; Manufacturer: Global Connector Technology; Manufacturer Part Number: USB1130-15-A; Supplier 1: Future Electronics; RoHS: No; Category: Connectors; Stock 1: 460; Pricing 1: 230=0.425, 690=0.41, 1150=0.4, 2300=0.39, 4600=0.375 (USD); ComponentLink1URL: https://datasheet.octopart.com/USB1130-15-A-Global-Connector-Technology-datasheet-148834151.pdf?src-supplier=Future+Electronics; ComponentLink1Description: https://datasheet.octopart.com/USB1130-15-A-Global-Connector-Technology-datasheet-148834151.pdf?src-supplier=Future+Electronics; Supplier Part Number 1: 5161878
footprint GCT_USB1130-15-A_REVA
pins: 1 VBUS, 2 DM, 3 DP, 4 GND, 5 SH1, 6 SH2
text: A

## USB4105-GF-A
designator J?, comment TYPE_C 2.0
Conn USB 2.0 Type C RCP 24 POS 0.3mm/0.5mm Solder RA SMD 24 Terminal 1 Port T/R; Manufacturer: Global Connector Technology; Manufacturer Part Number: USB4105-GF-A; USB Standard: 6108USBStandard; Number of Contacts: 16NUMBER; Voltage Rating: 20V; Gender: Receptacle; Mating Cycles: 10000; Shielding: Shielded; Number of Ports: 1; Supplier 1: Newark; RoHS: No; Category: USB Connectors; Stock 1: 1576; Pricing 1: 1=0.811, 10=0.737, 25=0.695, 50=0.666, 100=0.638, 250=0.581, 500=0.539 (USD); Mount: Surface Mount,Through Hole,Horizontal; Contact Material: 153,157ConductorMaterial; Contact Plating: Gold; Insulation Color: Black; Min Operating Temperature: -40°C; Max Operating Temperature: 85°C; Connector Type: USB; Series: USB4105; Termination: Solder; Height: 3.46mm; Flammability Rating: UL94 V-0; ComponentLink1URL: https://gct.co/files/drawings/usb4105.pdf?src-supplier=Digi-Key; ComponentLink1Description: https://gct.co/files/drawings/usb4105.pdf?src-supplier=Digi-Key; ComponentLink2URL: https://datasheet.octopart.com/USB4105-GF-A-GCT-datasheet-166929323.pdf?src-supplier=TME; ComponentLink2Description: https://datasheet.octopart.com/USB4105-GF-A-GCT-datasheet-166929323.pdf?src-supplier=TME; Supplier Part Number 1: 86AH2021
footprint GCT_USB4105-GF-A
pins: A5 CC1, A6 DP1, A7 DN1, A8 SBU1, B1 A12/B1/GND, B4 A9/B4/VBUS, B5 CC2, B6 DP2, B7 DN2, B8 SBU2, B9 A4/B9/VBUS, B12 A1/B12/GND, S1, S2, S3, S4

## XFL4015-471MEC
designator L?, comment 0.47uH
Power inductor, 20% tol, SMT, RoHS, halogen-free; Manufacturer: Coilcraft; Manufacturer Part Number: XFL4015-471MEC; Core Material: Composite; Self Resonant Frequency: 89MHz; Shielding: Shielded; Inductance: 470nH; Max DC Current: 11.2A; Test Frequency: 100kHz; Supplier 1: Mouser; RoHS: Yes; Category: Fixed Inductors; Stock 1: 26084; Pricing 1: 1=2.52, 10=2.52, 50=2.52, 100=2.52, 1000=0.945, 10000=0.945 (USD); Min Operating Temperature: -40°C; Max Operating Temperature: 125°C; Packaging: Tape and Reel; Package Quantity: 1000; Tolerance: 20%; Termination: SMD/SMT; Series: XFL4015; Length: 4.3mm; Width: 4.3mm; Height: 1.6mm; Lead Free: Contains Lead; RoHS Compliant: Yes; ComponentLink1URL: http://www.mouser.com/ds/2/597/xfl4015-270755.pdf?src-supplier=Mouser; ComponentLink1Description: http://www.mouser.com/ds/2/597/xfl4015-270755.pdf?src-supplier=Mouser; Supplier Part Number 1: 994-XFL4015-471MEC
footprint INDC40x40 (Chip Inductor, 2-Leads, Body 40x40mm, IPC High Density)
pins: 1, 2

## XTAL OSC XO 12.2880MHZ CMOS SMD
designator U?, comment 12.288MHz
12.288 MHz XO (Standard) CMOS Oscillator 1.71V ~ 3.63V Standby (Power Down) 4-SMD, No Lead; Manufacturer: Kyocera AVX; Manufacturer Part Number: KC2520Z12.2880C1KX00; Supplier 1: Digikey; RoHS: No; Stock 1: 9396; Pricing 1: 1=1.21, 10=1.066, 50=0.9966, 100=0.8806, 500=0.8343, 1000=0.69525 (USD); Supplier Part Number 1: 478-KC2520Z12.2880C1KX00CT-ND
footprint OSC4_KC2520B_100X80_SMD_0-8
pins: 1 INH, 2 GND, 3 OUTPUT, 4 VCC

## Y16364K80000F9R
designator R?, comment 4.8K
Res SMD 4.8K Ohm 1% 1/10W 0603; Manufacturer: VPG Foil Resistors; Manufacturer Part Number: Y16364K80000F9R; Resistance: 4.8kR; Max Power Dissipation: 100mW; Temperature Coefficient: 0.2ppm/°C; Supplier 1: Avnet; RoHS: Yes; Category: Chip SMD Resistors; Pricing 1: 100=11.9866, 110=11.9866, 210=11.9866, 500=11.9866, 1000=11.9866, 5000=11.9866, 10000=11.9866 (USD); Case/Package: 0603; Min Operating Temperature: -55°C; Max Operating Temperature: 150°C; Packaging: Tape and Reel; Number of Terminations: 2; Tolerance: 1%; Features: Moisture Resistant; Series: VSMP; Length: 0.063inch; Width: 0.032inch; Height: 0.025inch; RoHS Compliant: Yes; ComponentLink1URL: http://www.vishaypg.com/docs/63060/VSMP.pdf?src-supplier=Digi-Key; ComponentLink1Description: http://www.vishaypg.com/docs/63060/VSMP.pdf?src-supplier=Digi-Key; Supplier Part Number 1: Y16364K80000F9R
footprint R0402
pins: 1, 2